# EAGLE library part MIC5335-MGYMT (library biomimetic)
Micrel MIC5335 150mA dual (2.8V/1.8V) voltage regulator.
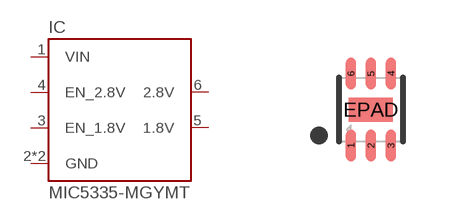
[diagram p17: symbol with the pads of MLF-6; footprint MLF-6]

Designator prefix IC

## MIC5335-MGYMT (DIGIKEY: 576-3670-1-ND)  [MLF-6]
1  VIN
2  GND
3  EN_1.8V
4  EN_2.8V
5  1.8V
6  2.8V
EPAD  GND

## Footprint MLF-6 (pad centres in mm)
smd 0.25 x 0.8: 1 -0.5,-0.9; 2 0,-0.9; 3 0.5,-0.9; 4 0.5,0.9; 5 0,0.9; 6 -0.5,0.9
smd 1.1 x 0.6: EPAD 0,0